# Altium footprint library BW1092_R0M0E0.PcbLib: 15 footprints
Each footprint in its own frame and in the unit in brackets; x right, y up, seen from the top. Pads: shape width x height; smd on the part's side, far side on the other; paste and mask are expansions set on the pad; w line width, h text height; cw(c..) or ccw(c..) is an arc to the next point about the centre after c.
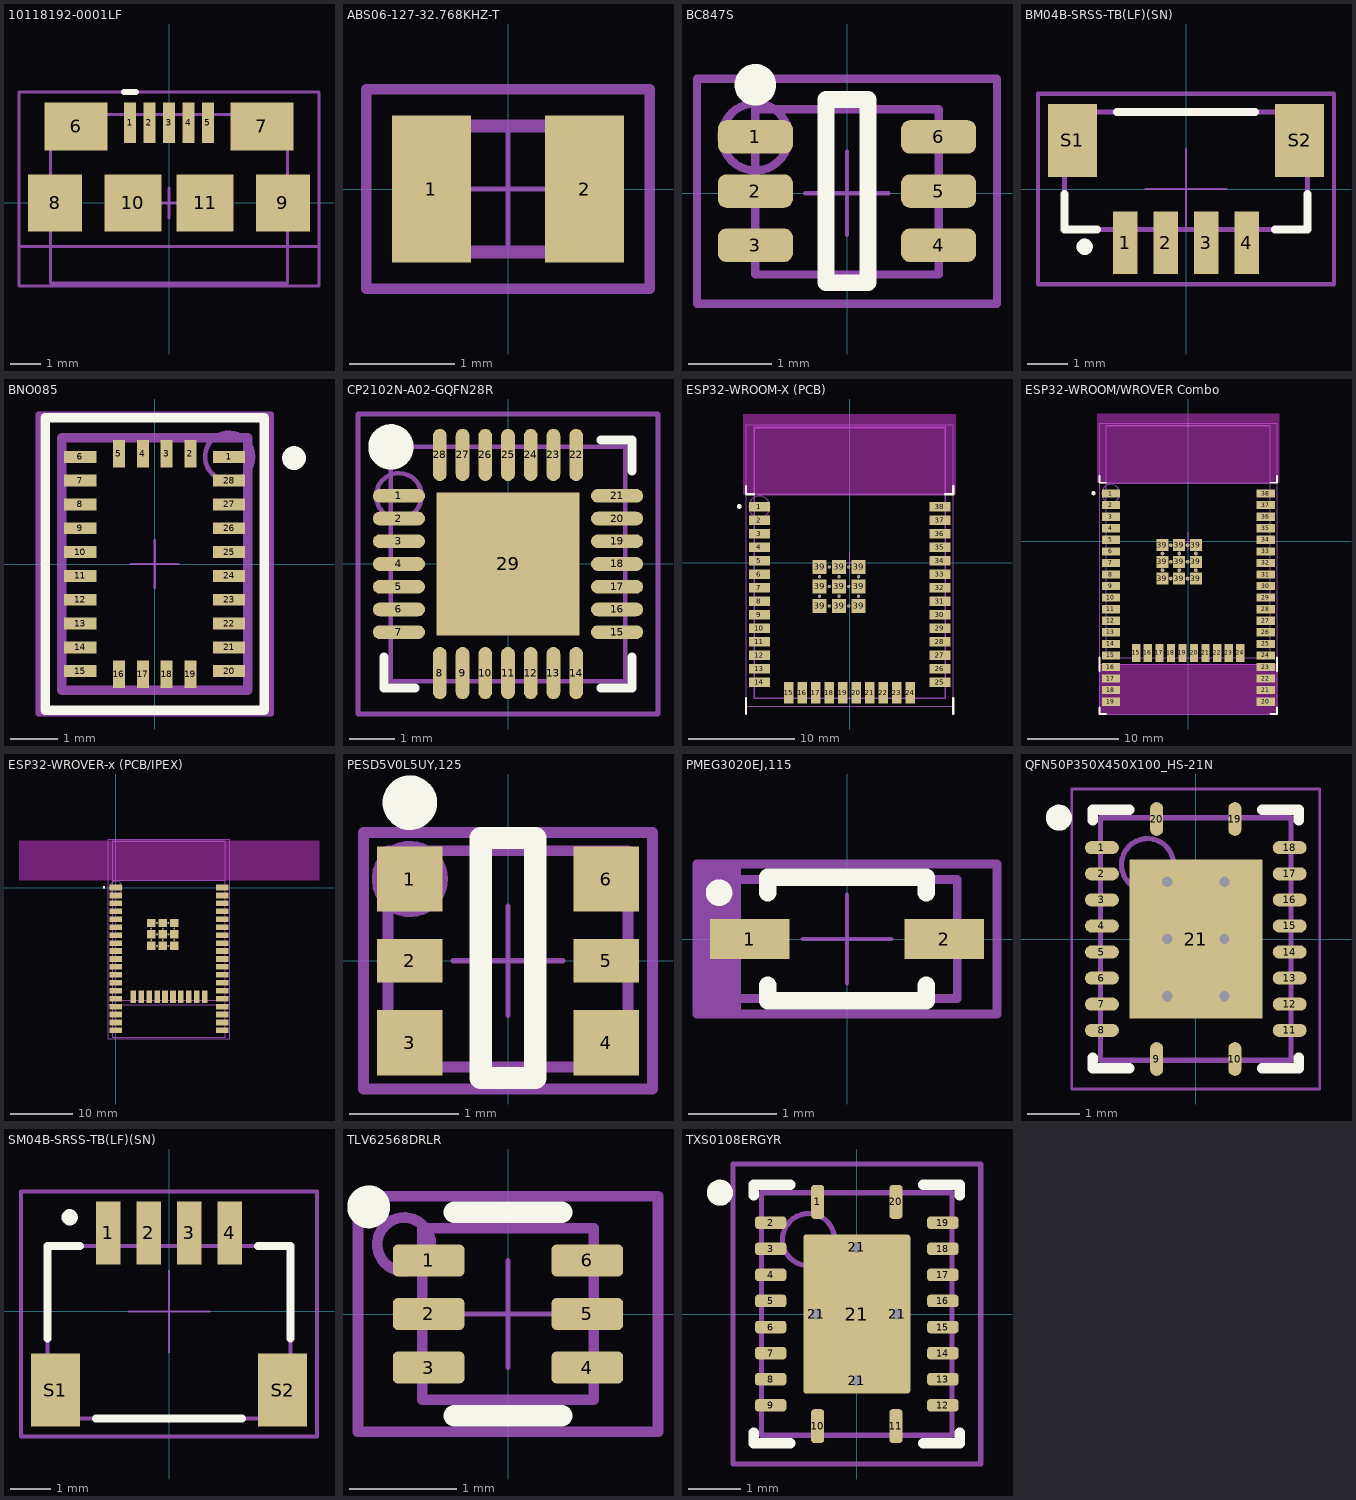
[diagram p0: the footprints below, top view; thin cyan lines are the x and y axes]

## 10118192-0001LF [mm] "USB - micro B"
height 2
pads (11):
  rect 0.4x1.35 smd: 1(-1.3,2.675) 2(-0.65,2.675) 3(0,2.675) 4(0.65,2.675) 5(1.3,2.675)
  rect 2.1x1.6 smd: 6(-3.1,2.55) 7(3.1,2.55)
  rect 1.8x1.9 smd: 8(-3.8,0) 9(3.8,0)
  rect 1.9x1.9 smd: 10(-1.2,0) 11(1.2,0)
Top Overlay:
  lines w0.2: -1.5,3.7 -1.1,3.7
Top Assembly:
  lines w0.1: -5,-1.446 5,-1.446 ; -5,-2.77 -5,3.7 5,3.7 5,-2.77 -5,-2.77
  text "'.Designator'" at 0,0.375 h2
Top Courtyard:
  lines w0.05: -5,-2.77 5,-2.77 5,3.7 -5,3.7 -5,-2.77
  lines w0.1: -0.5,0 0.5,0 ; 0,-0.5 0,0.5
Top Component Outline (Mech31):
  lines w0.1: -3.95,-2.67 3.95,-2.67 3.95,2.95 -3.95,2.95 -3.95,-2.67
3D body "10118192-0001LF--3DModel-STEP-56544.STEP": height 2.7, standoff -0.27, extent -3.95,-2.67 3.95,2.95

## ABS06-127-32.768KHZ-T [mm] "2-SMD 0.079\" L x 0.047\" W (2.00mm x 1.20mm)"
height 0.6
pads (2):
  rect 0.75x1.4 smd: 1(-0.73,0) 2(0.73,0)
Top Assembly:
  lines w0.1: -1.35,-0.95 1.35,-0.95 1.35,0.95 -1.35,0.95 -1.35,-0.95
  text "'.Designator'" at 0,0.188 h1
Top Courtyard:
  lines w0.05: -0.6,0 0,0 ; 0,-0.6 0,0 ; 0,0.6 0,0 ; 0.6,0 0,0 ; -1.35,-0.95 1.35,-0.95 1.35,0.95 -1.35,0.95 -1.35,-0.95
Top Component Outline (Mech31):
  lines w0.127: -1,-0.6 1,-0.6 1,0.6 -1,0.6 -1,-0.6
3D body "ABS06-32.768KHZ-9-T--3DModel-STEP-56544.STEP": height 0.65, standoff 0.05, extent -1,-0.6 1,0.6

## BC847S [mm] "SOT363, 6-Leads, Body 2.4x2.2mm (max), Pitch 0.65mm, IPC Medium Density"
height 1.1
pads (6):
  rrect50% 0.9x0.4 smd mask+0.076: 1(-1.1,0.675) 2(-1.1,0.025) 3(-1.1,-0.625) 4(1.1,-0.625) 5(1.1,0.025) 6(1.1,0.675)
Top Overlay:
  circle w0.25: c-1.1,1.3 r0.125
  lines w0.203: -0.25,-1.075 0.25,-1.075 0.25,1.125 -0.25,1.125 -0.25,-1.075
Top Assembly:
  circle w0.1: c-1.1,0.675 r0.403
  lines w0.1: -1.8,-1.325 1.8,-1.325 1.8,1.375 -1.8,1.375 -1.8,-1.325
  text "'.Designator'" at 0,0 h1
Top Courtyard:
  lines w0.05: -0.5,0 0.5,0 ; 0,-0.5 0,0.5 ; -1.8,-1.325 1.8,-1.325 1.8,1.375 -1.8,1.375 -1.8,-1.325
Top Component Outline (Mech31):
  lines w0.1: -1.1,-0.975 1.1,-0.975 1.1,1.009 -1.1,1.009 -1.1,-0.975
3D body "SOT65P210X110-6N.STEP": height 0.99, standoff -0.01, extent -1.1,-0.975 1.1,1.013

## BM04B-SRSS-TB(LF)(SN) [mm] "Connector Header Surface Mount 4 position 0.039\" (1.00mm)"
height 4.25
pads (6):
  rect 0.6x1.55 smd: 1(-1.5,-1.325) 2(-0.5,-1.325) 3(0.5,-1.325) 4(1.5,-1.325)
  rect 1.2x1.8 smd: S1(-2.8,1.2) S2(2.8,1.2)
Top Overlay:
  circle w0.2: c-2.5,-1.425 r0.1
  lines w0.2: -3,-0.125 -3,-1 -2.2,-1 ; -1.7,1.9 1.7,1.9 ; 2.2,-1 3,-1 3,-0.125
Top Assembly:
  lines w0.1: -3.65,-2.35 3.65,-2.35 3.65,2.35 -3.65,2.35 -3.65,-2.35
  text "'.Designator'" at 0,0.188 h1
Top 3D Body:
  circle w0.2: c-2.5,-1.425 r0.1
Top Courtyard:
  lines w0.05: -1,0 0,0 ; 0,-1 0,0 ; 0,1 0,0 ; 1,0 0,0 ; -3.65,-2.35 3.65,-2.35 3.65,2.35 -3.65,2.35 -3.65,-2.35
Top Component Outline (Mech31):
  lines w0.127: -3,-1 3,-1 3,1.9 -3,1.9 -3,-1
3D body "BM04B-SRSS-TB-LF--SN---3DModel-STEP-56544.STEP": height 4.35, standoff 0, extent -3,-1.7 3,1.9

## BNO085 [mm] "28-TFLGA Module (5.2x3.8)"
height 1.18
pads (28):
  rect 0.675x0.25 smd paste+0 mask+0: 1(1.562,2.25) 6(-1.562,2.25) 7(-1.562,1.75) 8(-1.562,1.25) 9(-1.562,0.75) 10(-1.562,0.25) 11(-1.562,-0.25) 12(-1.562,-0.75) 13(-1.562,-1.25) 14(-1.562,-1.75) 15(-1.562,-2.25) 20(1.562,-2.25) 21(1.562,-1.75) 22(1.562,-1.25) 23(1.562,-0.75) 24(1.562,-0.25) 25(1.562,0.25) 26(1.562,0.75) 27(1.562,1.25) 28(1.562,1.75)
  rect 0.25x0.575 smd paste+0 mask+0: 2(0.75,2.312) 3(0.25,2.312) 4(-0.25,2.312) 5(-0.75,2.312) 16(-0.75,-2.312) 17(-0.25,-2.312) 18(0.25,-2.312) 19(0.75,-2.312)
Top Overlay:
  circle w0.25: c2.925,2.225 r0.125
  lines w0.2: -2.3,-3.075 -2.3,3.075 2.3,3.075 2.3,-3.075 -2.3,-3.075
Top Assembly:
  circle w0.1: c1.562,2.25 r0.505
  lines w0.1: -2.45,-3.15 -2.45,3.15 2.45,3.15 2.45,-3.15 -2.45,-3.15
  text "'.Designator'" at 0,-0.001 h1
Top Courtyard:
  lines w0.05: -0.5,0 0.5,0 ; 0,-0.5 0,0.5 ; -2.45,-3.15 -2.45,3.15 2.45,3.15 2.45,-3.15 -2.45,-3.15
Top Component Outline (Mech31):
  lines w0.2: -1.95,-2.65 -1.95,2.65 1.95,2.65 1.95,-2.65 -1.95,-2.65
3D body "IC_Hillcrest_Laboratories_Inc_BNO085_eec.STEP": height 0.25, standoff 0, extent -2.45,-3.15 2.45,3.15

## CP2102N-A02-GQFN28R [mm] "QFN, 28-Leads, Body 5.00x5.00mm, Pitch 0.50mm, Thermal Pad 3.15x3.15mm, IPC Medium Density"
height 1
pads (29):
  oval 1.15x0.3 smd: 1(-2.4,1.5) 2(-2.4,1) 3(-2.4,0.5) 4(-2.4,0) 5(-2.4,-0.5) 6(-2.4,-1) 7(-2.4,-1.5) 15(2.4,-1.5) 16(2.4,-1) 17(2.4,-0.5) 18(2.4,0) 19(2.4,0.5) 20(2.4,1) 21(2.4,1.5)
  oval 0.3x1.15 smd: 8(-1.5,-2.4) 9(-1,-2.4) 10(-0.5,-2.4) 11(0,-2.4) 12(0.5,-2.4) 13(1,-2.4) 14(1.5,-2.4) 22(1.5,2.4) 23(1,2.4) 24(0.5,2.4) 25(0,2.4) 26(-0.5,2.4) 27(-1,2.4) 28(-1.5,2.4)
  rect 3.15x3.15 smd paste-0.635: 29(0,0)
Top Overlay:
  circle w0.5: c-2.575,2.575 r0.25
  lines w0.2: -2.725,-2.05 -2.725,-2.725 -2.05,-2.725 ; 2.05,-2.725 2.725,-2.725 2.725,-2.05 ; 2.05,2.725 2.725,2.725 2.725,2.05
Top Assembly:
  circle w0.1: c-2.4,1.5 r0.5
  lines w0.1: -3.3,-3.3 3.3,-3.3 3.3,3.3 -3.3,3.3 -3.3,-3.3
  text "'.Designator'" at 0,0.188 h1
Top Courtyard:
  lines w0.05: -0.5,0 0.5,0 ; 0,-0.5 0,0.5 ; -3.3,-3.3 -3.3,3.3 3.3,3.3 3.3,-3.3 -3.3,-3.3
Top Component Outline (Mech31):
  lines w0.1: -2.575,-2.575 -2.575,2.575 2.575,2.575 2.575,-2.575 -2.575,-2.575
3D body: height 1, standoff 0.01, extent -2.575,-2.575 2.575,2.575

## ESP32-WROOM-X (PCB) [mm] "ESP32-WROOM modules, with space left for WROVER"
height 3.2
pads (59):
  rect 2x0.9 smd: 1(-8.5,5.26) 2(-8.5,3.99) 3(-8.5,2.72) 4(-8.5,1.45) 5(-8.5,0.18) 6(-8.5,-1.09) 7(-8.5,-2.36) 8(-8.5,-3.63) 9(-8.5,-4.9) 10(-8.5,-6.17) 11(-8.5,-7.44) 12(-8.5,-8.71) 13(-8.5,-9.98) 14(-8.5,-11.25) 25(8.5,-11.25) 26(8.5,-9.98) 27(8.5,-8.71) 28(8.5,-7.44) 29(8.5,-6.17) 30(8.5,-4.9) 31(8.5,-3.63) 32(8.5,-2.36) 33(8.5,-1.09) 34(8.5,0.18) 35(8.5,1.45) 36(8.5,2.72) 37(8.5,3.99) 38(8.5,5.26)
  rect 0.9x2 smd: 15(-5.715,-12.25) 16(-4.445,-12.25) 17(-3.175,-12.25) 18(-1.905,-12.25) 19(-0.635,-12.25) 20(0.635,-12.25) 21(1.905,-12.25) 22(3.175,-12.25) 23(4.445,-12.25) 24(5.715,-12.25)
  rect 1.33x1.33 smd: 39(-2.835,-4.075) 39(-2.835,-2.24) 39(-2.835,-0.405) 39(-1,-4.075) 39(-1,-2.24) 39(-1,-0.405) 39(0.835,-4.075) 39(0.835,-2.24) 39(0.835,-0.405)
  round 0.3 hole 0.2: 39(-2.835,-3.157) 39(-2.835,-1.322) 39(-1.917,-4.075) 39(-1.917,-2.24) 39(-1.917,-0.405) 39(-1,-3.157) 39(-1,-1.322) 39(-0.082,-4.075) 39(-0.082,-2.24) 39(-0.082,-0.405) 39(0.835,-3.157) 39(0.835,-1.322)
Top Overlay:
  circle w0.25: c-10.4,5.3 r0.1
  lines w0.2: -9.75,-14.244 -9.75,-13.494 -9.75,-12.744 ; -9.75,7.194 -9.75,6.444 -9,6.444 ; 9,6.444 9.75,6.444 9.75,7.194 ; 9.75,-14.25 9.75,-13.5 9.75,-12.75
Top Paste:
  region: 1.5,-4.74 0.17,-4.74 0.17,-3.41 1.5,-3.41
  region: -0.335,-2.905 -1.665,-2.905 -1.665,-1.575 -0.335,-1.575
  region: -2.17,-2.905 -3.5,-2.905 -3.5,-1.575 -2.17,-1.575
  region: 1.5,-2.905 0.17,-2.905 0.17,-1.575 1.5,-1.575
  region: 1.5,-1.07 0.17,-1.07 0.17,0.26 1.5,0.26
  region: -0.335,-1.07 -1.665,-1.07 -1.665,0.26 -0.335,0.26
  region: -2.17,-1.07 -3.5,-1.07 -3.5,0.26 -2.17,0.26
  region: -2.17,-4.74 -3.5,-4.74 -3.5,-3.41 -2.17,-3.41
  region: -0.335,-4.74 -1.665,-4.74 -1.665,-3.41 -0.335,-3.41
Top Solder:
  region: -0.335,-2.905 -1.665,-2.905 -1.665,-1.575 -0.335,-1.575
  region: -2.17,-2.905 -3.5,-2.905 -3.5,-1.575 -2.17,-1.575
  region: 1.5,-2.905 0.17,-2.905 0.17,-1.575 1.5,-1.575
  region: 1.5,-1.07 0.17,-1.07 0.17,0.26 1.5,0.26
  region: -0.335,-1.07 -1.665,-1.07 -1.665,0.26 -0.335,0.26
  region: -2.17,-1.07 -3.5,-1.07 -3.5,0.26 -2.17,0.26
  region: -2.17,-4.74 -3.5,-4.74 -3.5,-3.41 -2.17,-3.41
  region: -0.335,-4.74 -1.665,-4.74 -1.665,-3.41 -0.335,-3.41
  region: 1.5,-4.74 0.17,-4.74 0.17,-3.41 1.5,-3.41
Keep-Out Layer:
  region: 9,6.45 -9,6.45 -9,12.75 9,12.75
  region: 10,6.45 -10,6.45 -10,14 10,14
Top Assembly:
  circle w0.1: c-8.5,5.26 r1
  lines w0.1: -9.75,-13.494 -9.75,13 9.75,13 9.75,-13.5 ; -9.75,6 -9.75,-13.5 9.75,-13.5 ; -9.75,6.444 9.75,6.444 ; 9.75,6 9.75,-13.5
  text "PCB ANTENNA" at -6,9 h2
  text "WROOM" at -2,-12.739 h1
  text "'.Designator'" at 0,0.188 h1
Top 3D Body:
Top Courtyard:
  lines w0.05: -9.75,-13.494 -9.75,13 9.75,13 9.75,-13.5 ; -9.75,6 -9.75,-13.5 9.75,-13.5 ; -1,0 0,0 ; 0,-1 0,0 ; 0,1 0,0 ; 1,0 0,0 ; 9.75,6 9.75,-13.5
Top Component Outline (Mech31):
  lines w0.127: -9,-12.74 -9,6.4 ; 9,-12.74 9,6.4 ; -9,6.4 9,6.4 ; -9,6.4 -9,12.7 9,12.7 9,6.4 ; -9,6.45 -9,-12.75 9,-12.75 9,6.45 ; -9,6.45 9,6.45 ; -9,6.45 -9,12.75 9,12.75 9,6.45
3D body "ESP32-WROOM-32D--3DModel-STEP-56544.STEP": height 3.3, standoff 0.05, extent -9,-12.74 9,12.76

## ESP32-WROOM/WROVER Combo [mm] "ESP32-WROOM combo module"
height 3.2
pads (69):
  rect 2x0.9 smd: 1(-8.5,5.26) 2(-8.5,3.99) 3(-8.5,2.72) 4(-8.5,1.45) 5(-8.5,0.18) 6(-8.5,-1.09) 7(-8.5,-2.36) 8(-8.5,-3.63) 9(-8.5,-4.9) 10(-8.5,-6.17) 11(-8.5,-7.44) 12(-8.5,-8.71) 13(-8.5,-9.98) 14(-8.5,-11.25) 15(-8.5,-12.52) 16(-8.5,-13.79) 17(-8.5,-15.06) 18(-8.5,-16.33) 19(-8.5,-17.6) 20(8.5,-17.6) 21(8.5,-16.33) 22(8.5,-15.06) 23(8.5,-13.79) 24(8.5,-12.52) 25(8.5,-11.25) 26(8.5,-9.98) 27(8.5,-8.71) 28(8.5,-7.44) 29(8.5,-6.17) 30(8.5,-4.9) 31(8.5,-3.63) 32(8.5,-2.36) 33(8.5,-1.09) 34(8.5,0.18) 35(8.5,1.45) 36(8.5,2.72) 37(8.5,3.99) 38(8.5,5.26)
  rect 0.9x2 smd: 15(-5.715,-12.25) 16(-4.445,-12.25) 17(-3.175,-12.25) 18(-1.905,-12.25) 19(-0.635,-12.25) 20(0.635,-12.25) 21(1.905,-12.25) 22(3.175,-12.25) 23(4.445,-12.25) 24(5.715,-12.25)
  rect 1.33x1.33 smd: 39(-2.835,-4.075) 39(-2.835,-2.24) 39(-2.835,-0.405) 39(-1,-4.075) 39(-1,-2.24) 39(-1,-0.405) 39(0.835,-4.075) 39(0.835,-2.24) 39(0.835,-0.405)
  oval 0.406x0.406 hole 0.203 mask+0.102: 39(-2.835,-3.157) 39(-2.835,-1.322) 39(-1.917,-4.075) 39(-1.917,-2.24) 39(-1.917,-0.405) 39(-1,-3.157) 39(-1,-1.322) 39(-0.082,-4.075) 39(-0.082,-2.24) 39(-0.082,-0.405) 39(0.835,-3.157) 39(0.835,-1.322)
Top Overlay:
  circle w0.25: c-10.4,5.3 r0.1
  lines w0.2: -9.75,-18.2 -9.75,-18.95 -9,-18.95 ; -9.75,-14.244 -9.75,-13.494 -9.75,-12.744 ; -9.75,7.194 -9.75,6.444 -9,6.444 ; 9,-18.95 9.75,-18.95 9.75,-18.2 ; 9,6.444 9.75,6.444 9.75,7.194 ; 9.75,-14.25 9.75,-13.5 9.75,-12.75
Top Paste:
  region: 1.5,-4.74 0.17,-4.74 0.17,-3.41 1.5,-3.41
  region: -0.335,-2.905 -1.665,-2.905 -1.665,-1.575 -0.335,-1.575
  region: -2.17,-2.905 -3.5,-2.905 -3.5,-1.575 -2.17,-1.575
  region: 1.5,-2.905 0.17,-2.905 0.17,-1.575 1.5,-1.575
  region: 1.5,-1.07 0.17,-1.07 0.17,0.26 1.5,0.26
  region: -0.335,-1.07 -1.665,-1.07 -1.665,0.26 -0.335,0.26
  region: -2.17,-1.07 -3.5,-1.07 -3.5,0.26 -2.17,0.26
  region: -2.17,-4.74 -3.5,-4.74 -3.5,-3.41 -2.17,-3.41
  region: -0.335,-4.74 -1.665,-4.74 -1.665,-3.41 -0.335,-3.41
Top Solder:
  region: -0.335,-2.905 -1.665,-2.905 -1.665,-1.575 -0.335,-1.575
  region: -2.17,-2.905 -3.5,-2.905 -3.5,-1.575 -2.17,-1.575
  region: 1.5,-2.905 0.17,-2.905 0.17,-1.575 1.5,-1.575
  region: 1.5,-1.07 0.17,-1.07 0.17,0.26 1.5,0.26
  region: -0.335,-1.07 -1.665,-1.07 -1.665,0.26 -0.335,0.26
  region: -2.17,-1.07 -3.5,-1.07 -3.5,0.26 -2.17,0.26
  region: -2.17,-4.74 -3.5,-4.74 -3.5,-3.41 -2.17,-3.41
  region: -0.335,-4.74 -1.665,-4.74 -1.665,-3.41 -0.335,-3.41
  region: 1.5,-4.74 0.17,-4.74 0.17,-3.41 1.5,-3.41
Keep-Out Layer:
  region: 9.75,-18.95 -9.75,-18.95 -9.75,-13.494 9.75,-13.494
  region: 9,6.45 -9,6.45 -9,12.75 9,12.75
  region: 10,6.45 -10,6.45 -10,14 10,14
Top Assembly:
  circle w0.1: c-8.5,5.26 r1
  lines w0.1: -9.75,6 -9.75,-13.5 9.75,-13.5 9.75,6 ; -9.75,6.444 9.75,6.444 ; -9.75,-18.95 -9.75,13 9.75,13 9.75,-18.95 -9.75,-18.95
  text "WROVER" at -2,-17.989 h1
  text "PCB ANTENNA" at -6,9 h2
  text "WROOM" at -2,-12.739 h1
  text "'.Designator'" at 0,0.188 h1
Top 3D Body:
Top Courtyard:
  lines w0.05: -9.75,6 -9.75,-13.5 9.75,-13.5 9.75,6 ; -1,0 0,0 ; 0,-1 0,0 ; 0,1 0,0 ; 1,0 0,0 ; -9.75,-18.95 -9.75,13 9.75,13 9.75,-18.95 -9.75,-18.95
Top Component Outline (Mech31):
  lines w0.127: -9,-12.74 -9,6.4 ; 9,-12.74 9,6.4 ; -9,6.4 9,6.4 ; -9,6.4 -9,12.7 9,12.7 9,6.4 ; -9,6.45 -9,-12.75 9,-12.75 9,6.45 ; -9,6.45 9,6.45 ; -9,6.45 -9,12.75 9,12.75 9,6.45
3D body "ESP32-WROOM-32D--3DModel-STEP-56544.STEP": height 3.3, standoff 0.05, extent -9,-12.74 9,12.76

## ESP32-WROVER-x (PCB/IPEX) [mm] "WROVER-style module, combo for PCB/IPEX"
height 3.4
pads (69):
  rect 2x0.9 smd: 1(0,0) 2(0,-1.27) 3(0,-2.54) 4(0,-3.81) 5(0,-5.08) 6(0,-6.35) 7(0,-7.62) 8(0,-8.89) 9(0,-10.16) 10(0,-11.43) 11(0,-12.7) 12(0,-13.97) 13(0,-15.24) 14(0,-16.51) 15(0,-17.78) 16(0,-19.05) 17(0,-20.32) 18(0,-21.59) 19(0,-22.86) 20(17,-22.86) 21(17,-21.59) 22(17,-20.32) 23(17,-19.05) 24(17,-17.78) 25(17,-16.51) 26(17,-15.24) 27(17,-13.97) 28(17,-12.7) 29(17,-11.43) 30(17,-10.16) 31(17,-8.89) 32(17,-7.62) 33(17,-6.35) 34(17,-5.08) 35(17,-3.81) 36(17,-2.54) 37(17,-1.27) 38(17,0)
  rect 0.9x2 smd: 15(2.785,-17.51) 16(4.055,-17.51) 17(5.325,-17.51) 18(6.595,-17.51) 19(7.865,-17.51) 20(9.135,-17.51) 21(10.405,-17.51) 22(11.675,-17.51) 23(12.945,-17.51) 24(14.215,-17.51)
  rect 1.33x1.33 smd: 39_1(5.665,-5.665) 39_2(7.5,-5.665) 39_3(9.335,-5.665) 39_4(5.665,-7.5) 39_5(7.5,-7.5) 39_6(9.335,-7.5) 39_7(5.665,-9.335) 39_8(7.5,-9.335) 39_9(9.335,-9.335)
  round 0.3 hole 0.2: 39_10(6.583,-5.665) 39_11(8.418,-5.665) 39_12(5.665,-6.582) 39_13(7.5,-6.582) 39_14(9.335,-6.582) 39_15(6.583,-7.5) 39_16(8.418,-7.5) 39_17(5.665,-8.417) 39_18(7.5,-8.417) 39_19(9.335,-8.417) 39_20(6.583,-9.335) 39_21(8.418,-9.335)
Top Overlay:
  circle w0.2: c-1.9,0.04 r0.1
Top Paste:
  region: 10,-10 8.67,-10 8.67,-8.67 10,-8.67
  region: 8.165,-8.165 6.835,-8.165 6.835,-6.835 8.165,-6.835
  region: 6.33,-8.165 5,-8.165 5,-6.835 6.33,-6.835
  region: 10,-8.165 8.67,-8.165 8.67,-6.835 10,-6.835
  region: 10,-6.33 8.67,-6.33 8.67,-5 10,-5
  region: 8.165,-6.33 6.835,-6.33 6.835,-5 8.165,-5
  region: 6.33,-6.33 5,-6.33 5,-5 6.33,-5
  region: 6.33,-10 5,-10 5,-8.67 6.33,-8.67
  region: 8.165,-10 6.835,-10 6.835,-8.67 8.165,-8.67
Top Solder:
  region: 8.165,-8.165 6.835,-8.165 6.835,-6.835 8.165,-6.835
  region: 6.33,-8.165 5,-8.165 5,-6.835 6.33,-6.835
  region: 10,-8.165 8.67,-8.165 8.67,-6.835 10,-6.835
  region: 10,-6.33 8.67,-6.33 8.67,-5 10,-5
  region: 8.165,-6.33 6.835,-6.33 6.835,-5 8.165,-5
  region: 6.33,-6.33 5,-6.33 5,-5 6.33,-5
  region: 6.33,-10 5,-10 5,-8.67 6.33,-8.67
  region: 8.165,-10 6.835,-10 6.835,-8.67 8.165,-8.67
  region: 10,-10 8.67,-10 8.67,-8.67 10,-8.67
Keep-Out Layer:
  region: 17.5,1.19 -0.5,1.19 -0.5,7.49 17.5,7.49
  region: 32.5,1.19 -15.5,1.19 -15.5,7.49 32.5,7.49
Top Assembly:
  circle w0.1: c0,0 r1
  lines w0.1: -1.25,0.74 -1.25,-18.76 18.25,-18.76 18.25,0.74 ; -1.25,-24.21 -1.25,7.74 18.25,7.74 18.25,-24.21 -1.25,-24.21
Top 3D Body:
  text "ANTENNA" at 2,3 h3
Top Courtyard:
  lines w0.05: -1.25,0.74 -1.25,-18.76 18.25,-18.76 18.25,0.74 ; -1.25,-24.21 -1.25,7.74 18.25,7.74 18.25,-24.21 -1.25,-24.21
Top Component Outline (Mech31):
  lines w0.127: -0.5,1.14 -0.5,-23.96 17.5,-23.96 17.5,1.14 ; -0.5,1.14 17.5,1.14 ; -0.5,1.14 -0.5,7.44 17.5,7.44 17.5,1.14 ; -0.5,1.19 -0.5,-18.01 17.5,-18.01 17.5,1.19 ; -0.5,1.19 17.5,1.19 ; -0.5,1.19 -0.5,7.49 17.5,7.49 17.5,1.19
3D body "ESP32-WROVER-B-(16MB)--3DModel-STEP-210337.STEP": height 3.4, standoff 0, extent -0.5,-23.95 17.5,7.45

## PESD5V0L5UY,125 [mm] "6-TSSOP, SC-88, SOT-363"
height 1.1
pads (6):
  rect 0.6x0.6 smd mask+0.076: 1(-0.9,0.75) 3(-0.9,-0.75) 4(0.9,-0.75) 6(0.9,0.75)
  rect 0.6x0.4 smd mask+0.076: 2(-0.9,0) 5(0.9,0)
Top Overlay:
  circle w0.25: c-0.9,1.45 r0.125
  lines w0.203: -0.25,-1.075 0.25,-1.075 0.25,1.125 -0.25,1.125 -0.25,-1.075
Top Assembly:
  circle w0.1: c-0.9,0.75 r0.3
  lines w0.1: -1.325,-1.175 -1.325,1.175 1.325,1.175 1.325,-1.175 -1.325,-1.175
  text "'.Designator'" at 0,0 h1
Top Courtyard:
  lines w0.05: -0.5,0 0.5,0 ; 0,-0.5 0,0.5 ; -1.325,-1.175 -1.325,1.175 1.325,1.175 1.325,-1.175 -1.325,-1.175
Top Component Outline (Mech31):
  lines w0.1: -1.1,-0.975 1.1,-0.975 1.1,1.009 -1.1,1.009 -1.1,-0.975
3D body "SOT65P210X110-6N.STEP": height 0.99, standoff -0.01, extent -1.1,-0.994 1.1,0.994

## PMEG3020EJ,115 [mm]
pads (2):
  rect 0.9x0.45 smd: 1(-1.1,0) 2(1.1,0)
Top Overlay:
  circle w0.2: c-1.45,0.525 r0.05
  lines w0.2: -0.9,-0.525 -0.9,-0.7 0.9,-0.7 0.9,-0.525 ; -0.9,0.525 -0.9,0.7 0.9,0.7 0.9,0.525
Top Assembly:
  rectangle: -1.7,-0.85 -1.25,0.85
  lines w0.1: -1.25,-0.85 -1.25,0.85 -1.139,0.85 ; -1.7,-0.85 -1.7,0.85 1.7,0.85 1.7,-0.85 -1.7,-0.85
  text "'.Designator'" at 0,0.188 h1
Top Courtyard:
  lines w0.05: -0.5,0 0.5,0 ; 0,-0.5 0,0.5 ; -1.7,-0.85 -1.7,0.85 1.7,0.85 1.7,-0.85 -1.7,-0.85
Top Component Outline (Mech31):
  lines w0.1: -1.25,-0.675 1.25,-0.675 1.25,0.675 -1.25,0.675 -1.25,-0.675
3D body "SODFL250X80-2N.step": height 0.8, standoff 0, extent -1.25,-0.675 1.25,0.675

## QFN50P350X450X100_HS-21N [mm] "QFN, 20-Leads, Body 3.50x4.50mm, Pitch 1.50mm/0.50mm, Thermal Pad 2.55x3.05mm, IPC Medium Density"
height 1
pads (21):
  oval 0.65x0.25 smd: 1(-1.8,1.75) 2(-1.8,1.25) 3(-1.8,0.75) 4(-1.8,0.25) 5(-1.8,-0.25) 6(-1.8,-0.75) 7(-1.8,-1.25) 8(-1.8,-1.75) 11(1.8,-1.75) 12(1.8,-1.25) 13(1.8,-0.75) 14(1.8,-0.25) 15(1.8,0.25) 16(1.8,0.75) 17(1.8,1.25) 18(1.8,1.75)
  oval 0.25x0.65 smd: 9(-0.75,-2.3) 10(0.75,-2.3) 19(0.75,2.3) 20(-0.75,2.3)
  rect 2.55x3.05 smd: 21(0,0)
via -0.55,1.1 diameter 0.5 hole 0.2
via 0.55,1.1 diameter 0.5 hole 0.2
via -0.55,0 diameter 0.5 hole 0.2
via 0.55,0 diameter 0.5 hole 0.2
via -0.55,-1.1 diameter 0.5 hole 0.2
via 0.55,-1.1 diameter 0.5 hole 0.2
Top Overlay:
  circle w0.25: c-2.625,2.325 r0.125
  lines w0.2: -1.975,-2.275 -1.975,-2.475 -1.275,-2.475 ; -1.975,2.275 -1.975,2.475 -1.275,2.475 ; 1.275,-2.475 1.975,-2.475 1.975,-2.275 ; 1.275,2.475 1.975,2.475 1.975,2.275
Top Assembly:
  circle w0.1: c-0.925,1.425 r0.5
  lines w0.1: -1.825,-2.325 -1.825,2.325 1.825,2.325 1.825,-2.325 -1.825,-2.325
Top Courtyard:
  lines w0.05: -2.375,-2.875 -2.375,2.875 2.375,2.875 2.375,-2.875 -2.375,-2.875
  lines w0.1: -0.5,0 0.5,0 ; 0,-0.5 0,0.5
3D body "QFN50P350X450X100_HS-21N.step": height 1, standoff 0, extent -1.826,-2.326 1.826,2.326

## SM04B-SRSS-TB(LF)(SN) [mm] "Connector Header Surface Mount, Right Angle 4 position 0.039\" (1.00mm)"
height 2.9
pads (6):
  rect 0.6x1.55 smd: 1(-1.5,1.938) 2(-0.5,1.938) 3(0.5,1.938) 4(1.5,1.938)
  rect 1.2x1.8 smd: S1(-2.8,-1.937) S2(2.8,-1.937)
Top Overlay:
  circle w0.2: c-2.45,2.323 r0.1
  lines w0.2: -3,-0.662 -3,1.613 -2.2,1.613 ; -1.8,-2.637 1.8,-2.637 ; 2.2,1.613 3,1.613 3,-0.662
Top Assembly:
  lines w0.1: -3.65,-3.087 3.65,-3.087 3.65,2.963 -3.65,2.963 -3.65,-3.087
  text "'.Designator'" at 0,0.188 h1
Top Courtyard:
  lines w0.05: -1,0 0,0 ; 0,-1 0,0 ; 0,1 0,0 ; 1,0 0,0 ; -3.65,-3.087 -3.65,2.963 3.65,2.963 3.65,-3.087 -3.65,-3.087
Top Component Outline (Mech31):
  lines w0.1: -3,-2.637 -3,1.613 3,1.613 3,-2.637 -3,-2.637
3D body "SM04B-SRSS-TB(LF)(SN)--3DModel-STEP-56544.STEP": height 2.96, standoff 0, extent -3,-2.638 3,2.312

## TLV62568DRLR [mm] "SOT-563, SOT-666,  SOT-563-6"
height 0.6
pads (6):
  rrect33% 0.67x0.3 smd paste+0 mask+0.05: 1(-0.74,0.5) 2(-0.74,0) 3(-0.74,-0.5) 4(0.74,-0.5) 5(0.74,0) 6(0.74,0.5)
Top Overlay:
  circle w0.2: c-1.3,1 r0.1
  lines w0.2: -0.5,-0.95 0.5,-0.95 ; -0.5,0.95 0.5,0.95
Top Assembly:
  circle w0.1: c-0.97,0.65 r0.25
  lines w0.1: -1.4,-1.1 -1.4,1.1 1.4,1.1 1.4,-1.1 -1.4,-1.1
  text "'.Designator'" at 0,0 h1
Top Courtyard:
  lines w0.05: -0.5,0 0,0 ; 0,-0.5 0,0 ; 0,0.5 0,0 ; 0.5,0 0,0 ; 0,0 0,0 ; -1.4,-1.1 1.4,-1.1 1.4,1.1 -1.4,1.1 -1.4,-1.1
Top Component Outline (Mech31):
  lines w0.1: -0.8,-0.8 -0.8,0.8 0.8,0.8 0.8,-0.8 -0.8,-0.8
3D body "DRL0006A.stp": height 0.61, standoff 0.01, extent -0.8,-0.8 0.8,0.8

## TXS0108ERGYR [mm] "20-VQFN (3.5x4.5)"
height 1
pads (25):
  rrect50% 0.25x0.65 smd mask+0.07: 1(-0.75,2.15) 10(-0.75,-2.15) 11(0.75,-2.15) 20(0.75,2.15)
  rrect50% 0.6x0.24 smd mask+0.07: 2(-1.65,1.75) 3(-1.65,1.25) 4(-1.65,0.75) 5(-1.65,0.25) 6(-1.65,-0.25) 7(-1.65,-0.75) 8(-1.65,-1.25) 9(-1.65,-1.75) 12(1.65,-1.75) 13(1.65,-1.25) 14(1.65,-0.75) 15(1.65,-0.25) 16(1.65,0.25) 17(1.65,0.75) 18(1.65,1.25) 19(1.65,1.75)
  oval 0.406x0.406 hole 0.203: 21(-0.775,0) 21(0,-1.275) 21(0,1.275) 21(0.775,0)
  rrect5% 2.05x3.05 smd paste-3 mask+0.07: 21(0,0)
Top Overlay:
  circle w0.25: c-2.625,2.325 r0.125
  lines w0.2: -1.975,-2.275 -1.975,-2.475 -1.275,-2.475 ; -1.975,2.275 -1.975,2.475 -1.275,2.475 ; 1.275,-2.475 1.975,-2.475 1.975,-2.275 ; 1.275,2.475 1.975,2.475 1.975,2.275
Top Paste:
  region: -0.1,-0.105 -1.02,-0.105 -1.02,-1.435 -0.1,-1.435
  rectangle: 0.1,-1.435 1.02,-0.105
  region: -0.1,1.435 -1.02,1.435 -1.02,0.105 -0.1,0.105
  rectangle: 0.1,0.105 1.02,1.435
Top Assembly:
  circle w0.1: c-0.925,1.425 r0.5
  lines w0.1: -2.375,-2.875 2.375,-2.875 2.375,2.875 -2.375,2.875 -2.375,-2.875
Top 3D Body:
  text "'.Designator'" at 0,0.188 h1
Top Courtyard:
  lines w0.05: -0.5,0 0.5,0 ; 0,-0.5 0,0.5 ; -2.375,-2.875 2.375,-2.875 2.375,2.875 -2.375,2.875 -2.375,-2.875
Bottom Component Outline (Mech32):
  lines w0.1: -1.825,-2.325 -1.825,2.325 1.825,2.325 1.825,-2.325 -1.825,-2.325
3D body "QFN50P350X450X100_HS-21N.step": height 1, standoff 0, extent -1.826,-2.326 1.826,2.326